# Altium integrated library C3216X5R1A686M160AC.IntLib: 2 symbols
Pins are listed as number, name and electrical type; pins without a type are passive.

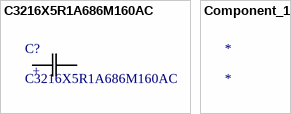
[diagram p0: symbols C3216X5R1A686M160AC to Component_1]

## C3216X5R1A686M160AC
designator C?
No Description Available; Mfr_Name: TDK; Type: DEV; Copyright: Copyright (C) 2022 Ultra Librarian. All rights reserved.; Manufacturer_Part_Number: C3216X5R1A686M160AC; RefDes: RefDes
footprint CAP_3216_TDK
pins: 1, 2
text: +

## Component_1
designator *